# Altium footprint library XTX_PCB.PcbLib: 2 footprints
Each footprint in its own frame and in the unit in brackets; x right, y up, seen from the top. Pads: shape width x height; smd on the part's side, far side on the other; paste and mask are expansions set on the pad; w line width, h text height; cw(c..) or ccw(c..) is an arc to the next point about the centre after c.
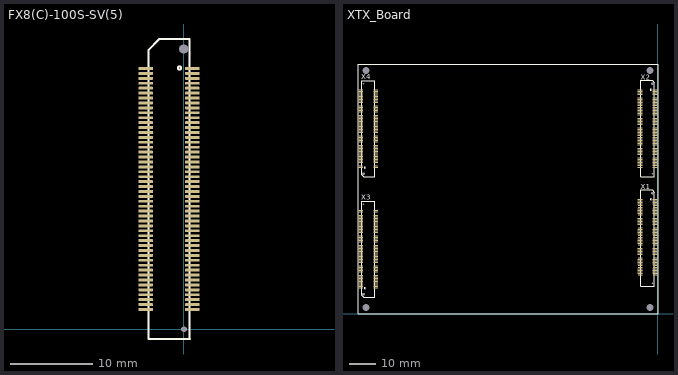
[diagram p0: the footprints below, top view; thin cyan lines are the x and y axes]

## FX8(C)-100S-SV(5) [mm]
pads (102):
  rrect50% 0x0 hole 1.1 unplated: 0(-0.025,34.225)
  rrect50% 0x0 hole 0.7 unplated: 0(0,0)
  rrect50% 1.8x0.35 smd: 1(1.025,31.825) 2(-4.675,31.825) 3(1.025,31.225) 4(-4.675,31.225) 5(1.025,30.625) 6(-4.675,30.625) 7(1.025,30.025) 8(-4.675,30.025) 9(1.025,29.425) 10(-4.675,29.425) 11(1.025,28.825) 12(-4.675,28.825) 13(1.025,28.225) 14(-4.675,28.225) 15(1.025,27.625) 16(-4.675,27.625) 17(1.025,27.025) 18(-4.675,27.025) 19(1.025,26.425) 20(-4.675,26.425) 21(1.025,25.825) 22(-4.675,25.825) 23(1.025,25.225) 24(-4.675,25.225) 25(1.025,24.625) 26(-4.675,24.625) 27(1.025,24.025) 28(-4.675,24.025) 29(1.025,23.425) 30(-4.675,23.425) 31(1.025,22.825) 32(-4.675,22.825) 33(1.025,22.225) 34(-4.675,22.225) 35(1.025,21.625) 36(-4.675,21.625) 37(1.025,21.025) 38(-4.675,21.025) 39(1.025,20.425) 40(-4.675,20.425) 41(1.025,19.825) 42(-4.675,19.825) 43(1.025,19.225) 44(-4.675,19.225) 45(1.025,18.625) 46(-4.675,18.625) 47(1.025,18.025) 48(-4.675,18.025) 49(1.025,17.425) 50(-4.675,17.425) 51(1.025,16.825) 52(-4.675,16.825) 53(1.025,16.225) 54(-4.675,16.225) 55(1.025,15.625) 56(-4.675,15.625) 57(1.025,15.025) 58(-4.675,15.025) 59(1.025,14.425) 60(-4.675,14.425) 61(1.025,13.825) 62(-4.675,13.825) 63(1.025,13.225) 64(-4.675,13.225) 65(1.025,12.625) 66(-4.675,12.625) 67(1.025,12.025) 68(-4.675,12.025) 69(1.025,11.425) 70(-4.675,11.425) 71(1.025,10.825) 72(-4.675,10.825) 73(1.025,10.225) 74(-4.675,10.225) 75(1.025,9.625) 76(-4.675,9.625) 77(1.025,9.025) 78(-4.675,9.025) 79(1.025,8.425) 80(-4.675,8.425) 81(1.025,7.825) 82(-4.675,7.825) 83(1.025,7.225) 84(-4.675,7.225) 85(1.025,6.625) 86(-4.675,6.625) 87(1.025,6.025) 88(-4.675,6.025) 89(1.025,5.425) 90(-4.675,5.425) 91(1.025,4.825) 92(-4.675,4.825) 93(1.025,4.225) 94(-4.675,4.225) 95(1.025,3.625) 96(-4.675,3.625) 97(1.025,3.025) 98(-4.675,3.025) 99(1.025,2.425) 100(-4.675,2.425)
Top Overlay:
  circle w0.254: c-0.55,31.885 r0.2
  lines w0.254: 0.7,-1.175 0.7,35.425 -3,35.425 -4.35,34.075 -4.35,-1.15 0.725,-1.15

## XTX_Board [mm]
pads (412):
  round 0 hole 0.7 unplated: 0(-111.85,41.65) 0(-111.85,87.45) 0(-2.025,53.25) 0(-2,11.65)
  round 0 hole 1.1 unplated: 0(-111.8,7.45) 0(-111.8,53.25) 0(-2.075,87.45) 0(-2.05,45.85)
  round 0 hole 2.7 unplated: 0(-110.9,2.45) 0(-110.9,92.45) 0(-2.9,2.45) 0(-2.9,92.45)
  rrect50% 1.8x0.35 smd: 1(-1,43.5) 2(-6.7,43.5) 3(-1,42.9) 4(-6.7,42.9) 5(-1,42.3) 6(-6.7,42.3) 7(-1,41.7) 8(-6.7,41.7) 9(-1,41.1) 10(-6.7,41.1) 11(-1,40.5) 12(-6.7,40.5) 13(-1,39.9) 14(-6.7,39.9) 15(-1,39.3) 16(-6.7,39.3) 17(-1,38.7) 18(-6.7,38.7) 19(-1,38.1) 20(-6.7,38.1) 21(-1,37.5) 22(-6.7,37.5) 23(-1,36.9) 24(-6.7,36.9) 25(-1,36.3) 26(-6.7,36.3) 27(-1,35.7) 28(-6.7,35.7) 29(-1,35.1) 30(-6.7,35.1) 31(-1,34.5) 32(-6.7,34.5) 33(-1,33.9) 34(-6.7,33.9) 35(-1,33.3) 36(-6.7,33.3) 37(-1,32.7) 38(-6.7,32.7) 39(-1,32.1) 40(-6.7,32.1) 41(-1,31.5) 42(-6.7,31.5) 43(-1,30.9) 44(-6.7,30.9) 45(-1,30.3) 46(-6.7,30.3) 47(-1,29.7) 48(-6.7,29.7) 49(-1,29.1) 50(-6.7,29.1) 51(-1,28.5) 52(-6.7,28.5) 53(-1,27.9) 54(-6.7,27.9) 55(-1,27.3) 56(-6.7,27.3) 57(-1,26.7) 58(-6.7,26.7) 59(-1,26.1) 60(-6.7,26.1) 61(-1,25.5) 62(-6.7,25.5) 63(-1,24.9) 64(-6.7,24.9) 65(-1,24.3) 66(-6.7,24.3) 67(-1,23.7) 68(-6.7,23.7) 69(-1,23.1) 70(-6.7,23.1) 71(-1,22.5) 72(-6.7,22.5) 73(-1,21.9) 74(-6.7,21.9) 75(-1,21.3) 76(-6.7,21.3) 77(-1,20.7) 78(-6.7,20.7) 79(-1,20.1) 80(-6.7,20.1) 81(-1,19.5) 82(-6.7,19.5) 83(-1,18.9) 84(-6.7,18.9) 85(-1,18.3) 86(-6.7,18.3) 87(-1,17.7) 88(-6.7,17.7) 89(-1,17.1) 90(-6.7,17.1) 91(-1,16.5) 92(-6.7,16.5) 93(-1,15.9) 94(-6.7,15.9) 95(-1,15.3) 96(-6.7,15.3) 97(-1,14.7) 98(-6.7,14.7) 99(-1,14.1) 100(-6.7,14.1) 101(-1.025,85.1) 102(-6.725,85.1) 103(-1.025,84.5) 104(-6.725,84.5) 105(-1.025,83.9) 106(-6.725,83.9) 107(-1.025,83.3) 108(-6.725,83.3) 109(-1.025,82.7) 110(-6.725,82.7) 111(-1.025,82.1) 112(-6.725,82.1) 113(-1.025,81.5) 114(-6.725,81.5) 115(-1.025,80.9) 116(-6.725,80.9) 117(-1.025,80.3) 118(-6.725,80.3) 119(-1.025,79.7) 120(-6.725,79.7) 121(-1.025,79.1) 122(-6.725,79.1) 123(-1.025,78.5) 124(-6.725,78.5) 125(-1.025,77.9) 126(-6.725,77.9) 127(-1.025,77.3) 128(-6.725,77.3) 129(-1.025,76.7) 130(-6.725,76.7) 131(-1.025,76.1) 132(-6.725,76.1) 133(-1.025,75.5) 134(-6.725,75.5) 135(-1.025,74.9) 136(-6.725,74.9) 137(-1.025,74.3) 138(-6.725,74.3) 139(-1.025,73.7) 140(-6.725,73.7) 141(-1.025,73.1) 142(-6.725,73.1) 143(-1.025,72.5) 144(-6.725,72.5) 145(-1.025,71.9) 146(-6.725,71.9) 147(-1.025,71.3) 148(-6.725,71.3) 149(-1.025,70.7) 150(-6.725,70.7) 151(-1.025,70.1) 152(-6.725,70.1) 153(-1.025,69.5) 154(-6.725,69.5) 155(-1.025,68.9) 156(-6.725,68.9) 157(-1.025,68.3) 158(-6.725,68.3) 159(-1.025,67.7) 160(-6.725,67.7) 161(-1.025,67.1) 162(-6.725,67.1) 163(-1.025,66.5) 164(-6.725,66.5) 165(-1.025,65.9) 166(-6.725,65.9) 167(-1.025,65.3) 168(-6.725,65.3) 169(-1.025,64.7) 170(-6.725,64.7) 171(-1.025,64.1) 172(-6.725,64.1) 173(-1.025,63.5) 174(-6.725,63.5) 175(-1.025,62.9) 176(-6.725,62.9) 177(-1.025,62.3) 178(-6.725,62.3) 179(-1.025,61.7) 180(-6.725,61.7) 181(-1.025,61.1) 182(-6.725,61.1) 183(-1.025,60.5) 184(-6.725,60.5) 185(-1.025,59.9) 186(-6.725,59.9) 187(-1.025,59.3) 188(-6.725,59.3) 189(-1.025,58.7) 190(-6.725,58.7) 191(-1.025,58.1) 192(-6.725,58.1) 193(-1.025,57.5) 194(-6.725,57.5) 195(-1.025,56.9) 196(-6.725,56.9) 197(-1.025,56.3) 198(-6.725,56.3) 199(-1.025,55.7) 200(-6.725,55.7) 201(-112.85,9.85) 202(-107.15,9.85) 203(-112.85,10.45) 204(-107.15,10.45) 205(-112.85,11.05) 206(-107.15,11.05) 207(-112.85,11.65) 208(-107.15,11.65) 209(-112.85,12.25) 210(-107.15,12.25) 211(-112.85,12.85) 212(-107.15,12.85) 213(-112.85,13.45) 214(-107.15,13.45) 215(-112.85,14.05) 216(-107.15,14.05) 217(-112.85,14.65) 218(-107.15,14.65) 219(-112.85,15.25) 220(-107.15,15.25) 221(-112.85,15.85) 222(-107.15,15.85) 223(-112.85,16.45) 224(-107.15,16.45) 225(-112.85,17.05) 226(-107.15,17.05) 227(-112.85,17.65) 228(-107.15,17.65) 229(-112.85,18.25) 230(-107.15,18.25) 231(-112.85,18.85) 232(-107.15,18.85) 233(-112.85,19.45) 234(-107.15,19.45) 235(-112.85,20.05) 236(-107.15,20.05) 237(-112.85,20.65) 238(-107.15,20.65) 239(-112.85,21.25) 240(-107.15,21.25) 241(-112.85,21.85) 242(-107.15,21.85) 243(-112.85,22.45) 244(-107.15,22.45) 245(-112.85,23.05) 246(-107.15,23.05) 247(-112.85,23.65) 248(-107.15,23.65) 249(-112.85,24.25) 250(-107.15,24.25) 251(-112.85,24.85) 252(-107.15,24.85) 253(-112.85,25.45) 254(-107.15,25.45) 255(-112.85,26.05) 256(-107.15,26.05) 257(-112.85,26.65) 258(-107.15,26.65) 259(-112.85,27.25) 260(-107.15,27.25) 261(-112.85,27.85) 262(-107.15,27.85) 263(-112.85,28.45) 264(-107.15,28.45) 265(-112.85,29.05) 266(-107.15,29.05) 267(-112.85,29.65) 268(-107.15,29.65) 269(-112.85,30.25) 270(-107.15,30.25) 271(-112.85,30.85) 272(-107.15,30.85) 273(-112.85,31.45) 274(-107.15,31.45) 275(-112.85,32.05) 276(-107.15,32.05) 277(-112.85,32.65) 278(-107.15,32.65) 279(-112.85,33.25) 280(-107.15,33.25) 281(-112.85,33.85) 282(-107.15,33.85) 283(-112.85,34.45) 284(-107.15,34.45) 285(-112.85,35.05) 286(-107.15,35.05) 287(-112.85,35.65) 288(-107.15,35.65) 289(-112.85,36.25) 290(-107.15,36.25) 291(-112.85,36.85) 292(-107.15,36.85) 293(-112.85,37.45) 294(-107.15,37.45) 295(-112.85,38.05) 296(-107.15,38.05) 297(-112.85,38.65) 298(-107.15,38.65) 299(-112.85,39.25) 300(-107.15,39.25) 301(-112.85,55.65) 302(-107.15,55.65) 303(-112.85,56.25) 304(-107.15,56.25) 305(-112.85,56.85) 306(-107.15,56.85) 307(-112.85,57.45) 308(-107.15,57.45) 309(-112.85,58.05) 310(-107.15,58.05) 311(-112.85,58.65) 312(-107.15,58.65) 313(-112.85,59.25) 314(-107.15,59.25) 315(-112.85,59.85) 316(-107.15,59.85) 317(-112.85,60.45) 318(-107.15,60.45) 319(-112.85,61.05) 320(-107.15,61.05) 321(-112.85,61.65) 322(-107.15,61.65) 323(-112.85,62.25) 324(-107.15,62.25) 325(-112.85,62.85) 326(-107.15,62.85) 327(-112.85,63.45) 328(-107.15,63.45) 329(-112.85,64.05) 330(-107.15,64.05) 331(-112.85,64.65) 332(-107.15,64.65) 333(-112.85,65.25) 334(-107.15,65.25) 335(-112.85,65.85) 336(-107.15,65.85) 337(-112.85,66.45) 338(-107.15,66.45) 339(-112.85,67.05) 340(-107.15,67.05) 341(-112.85,67.65) 342(-107.15,67.65) 343(-112.85,68.25) 344(-107.15,68.25) 345(-112.85,68.85) 346(-107.15,68.85) 347(-112.85,69.45) 348(-107.15,69.45) 349(-112.85,70.05) 350(-107.15,70.05) 351(-112.85,70.65) 352(-107.15,70.65) 353(-112.85,71.25) 354(-107.15,71.25) 355(-112.85,71.85) 356(-107.15,71.85) 357(-112.85,72.45) 358(-107.15,72.45) 359(-112.85,73.05) 360(-107.15,73.05) 361(-112.85,73.65) 362(-107.15,73.65) 363(-112.85,74.25) 364(-107.15,74.25) 365(-112.85,74.85) 366(-107.15,74.85) 367(-112.85,75.45) 368(-107.15,75.45) 369(-112.85,76.05) 370(-107.15,76.05) 371(-112.85,76.65) 372(-107.15,76.65) 373(-112.85,77.25) 374(-107.15,77.25) 375(-112.85,77.85) 376(-107.15,77.85) 377(-112.85,78.45) 378(-107.15,78.45) 379(-112.85,79.05) 380(-107.15,79.05) 381(-112.85,79.65) 382(-107.15,79.65) 383(-112.85,80.25) 384(-107.15,80.25) 385(-112.85,80.85) 386(-107.15,80.85) 387(-112.85,81.45) 388(-107.15,81.45) 389(-112.85,82.05) 390(-107.15,82.05) 391(-112.85,82.65) 392(-107.15,82.65) 393(-112.85,83.25) 394(-107.15,83.25) 395(-112.85,83.85) 396(-107.15,83.85) 397(-112.85,84.45) 398(-107.15,84.45) 399(-112.85,85.05) 400(-107.15,85.05)
Top Overlay:
  circle w0.254: c-111.275,55.59 r0.2
  circle w0.254: c-111.275,9.79 r0.2
  circle w0.254: c-2.6,85.16 r0.2
  circle w0.254: c-2.575,43.56 r0.2
  lines w0.254: -112.55,42.825 -107.475,42.825 -107.475,6.25 -111.7,6.25 -112.525,7.075 -112.525,42.85 ; -112.55,88.625 -107.475,88.625 -107.475,52.05 -111.7,52.05 -112.525,52.875 -112.525,88.65 ; -1.35,52.1 -1.35,87.875 -2.175,88.7 -6.4,88.7 -6.4,52.125 -1.325,52.125 ; -1.325,10.5 -1.325,46.275 -2.15,47.1 -6.375,47.1 -6.375,10.525 -1.3,10.525 ; -113.9,-0.05 -113.9,94.95 0.1,94.95 0.1,-0.05 -113.9,-0.05
  text "X4" at -112.575,89.1 h2
  text "X3" at -112.575,43.425 h2
  text "X2" at -6.4,89 h2
  text "X1" at -6.4,47.4 h2
3D body: height 19.2, standoff 0.1, extent -114,0 0,95